# EAGLE library part DS2482 (library collin)
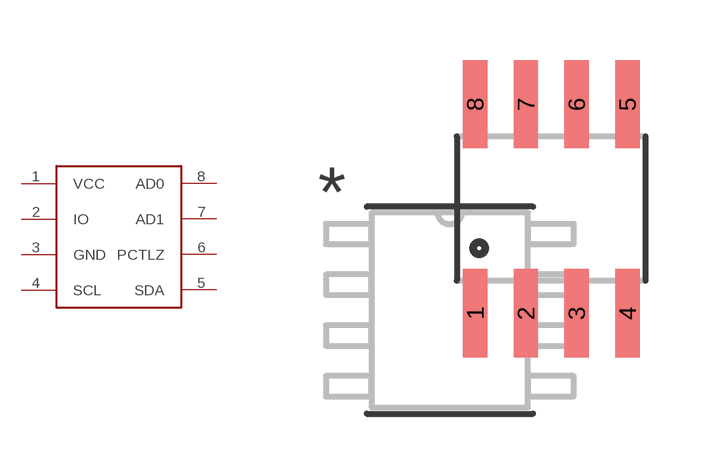
[diagram p5: symbol with the pads of SOIC8; footprint SOIC8]

Designator prefix -

## DS2482  [SOIC8]
1  VCC
2  IO
3  GND
4  SCL
5  SDA
6  PCTLZ
7  AD1
8  AD0

## Footprint SOIC8 (pad centres in mm)
smd 0.61 x 2.21: 1 0.635,-0.076; 2 1.905,-0.076; 3 3.175,-0.076; 4 4.445,-0.076; 5 4.445,5.156; 6 3.175,5.156; 7 1.905,5.156; 8 0.635,5.156